# EAGLE library part IC_UC_PIC24F16KA102 (library dp_devices)
16-Bit Flash PIC Microcontroller Mfr no: PIC24F16KA102 PIC24F16KA102 <http://www.microchip.com/wwwproducts/Devices.aspx?dDocName=en539800>
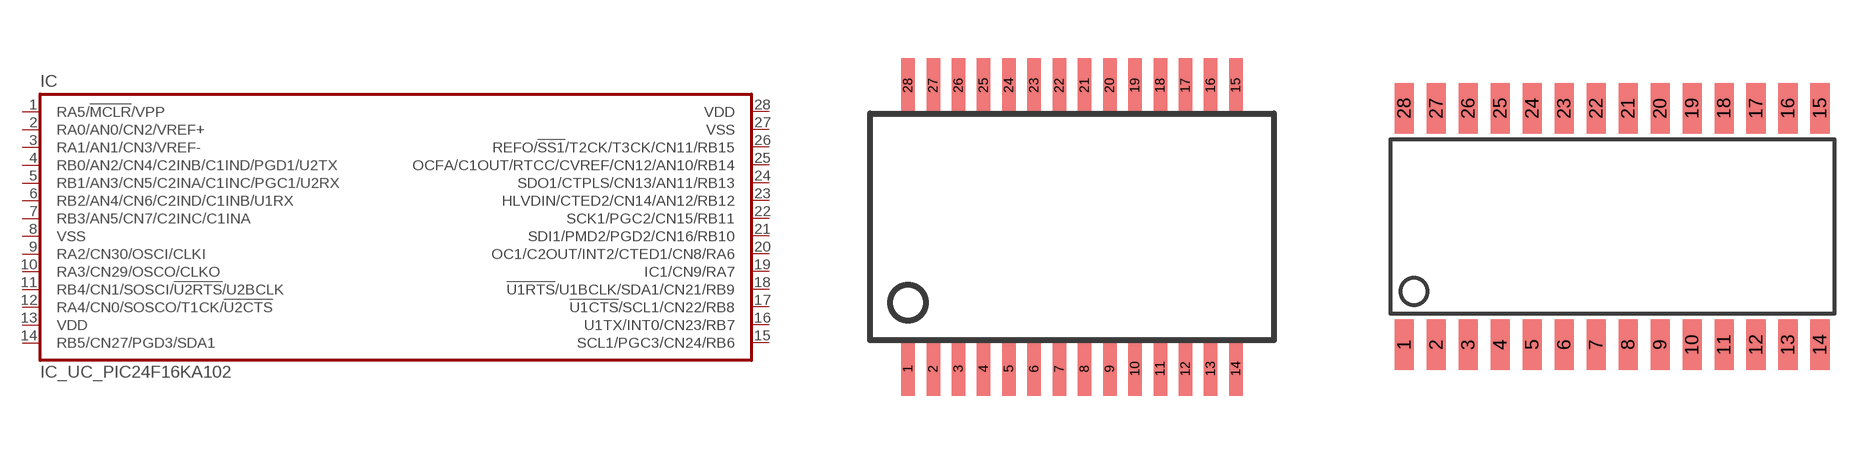
[diagram p118: symbol with the pads of SSOP-28; footprints SSOP-28, SOIC-28W]

Designator prefix IC

## IC_UC_PIC24F16KA102-SSOP  [SSOP-28]
1  RA5/!MCLR!/VPP  in
2  RA0/AN0/CN2/VREF+
3  RA1/AN1/CN3/VREF-
4  RB0/AN2/CN4/C2INB/C1IND/PGD1/U2TX
5  RB1/AN3/CN5/C2INA/C1INC/PGC1/U2RX
6  RB2/AN4/CN6/C2IND/C1INB/U1RX
7  RB3/AN5/CN7/C2INC/C1INA
8  VSS  sup
9  RA2/CN30/OSCI/CLKI
10  RA3/CN29/OSCO/CLKO
11  RB4/CN1/SOSCI/!U2RTS!/U2BCLK
12  RA4/CN0/SOSCO/T1CK/!U2CTS!
13  VDD  sup
14  RB5/CN27/PGD3/SDA1
15  SCL1/PGC3/CN24/RB6
16  U1TX/INT0/CN23/RB7
17  !U1CTS!/SCL1/CN22/RB8
18  !U1RTS!/U1BCLK/SDA1/CN21/RB9
19  IC1/CN9/RA7  pwr
20  OC1/C2OUT/INT2/CTED1/CN8/RA6  pwr
21  SDI1/PMD2/PGD2/CN16/RB10
22  SCK1/PGC2/CN15/RB11
23  HLVDIN/CTED2/CN14/AN12/RB12
24  SDO1/CTPLS/CN13/AN11/RB13
25  OCFA/C1OUT/RTCC/CVREF/CN12/AN10/RB14
26  REFO/!SS1!/T2CK/T3CK/CN11/RB15
27  VSS  sup
28  VDD  sup

## IC_UC_PIC24F16KA102-SOIC  [SOIC-28W]
Pads as for SSOP-28

## Footprint SSOP-28 (pad centres in mm)
SSOP28
smd 0.348 x 1.397: 1 -4.225,-3.656; 2 -3.575,-3.656; 3 -2.925,-3.656; 4 -2.275,-3.656; 5 -1.625,-3.656; 6 -0.975,-3.656; 7 -0.325,-3.656; 8 0.325,-3.656; 9 0.975,-3.656; 10 1.625,-3.656; 11 2.275,-3.656; 12 2.925,-3.656; 13 3.575,-3.656; 14 4.225,-3.656; 15 4.225,3.656; 16 3.575,3.656; 17 2.925,3.656; 18 2.275,3.656; 19 1.625,3.656; 20 0.975,3.656; 21 0.325,3.656; 22 -0.325,3.656; 23 -0.975,3.656; 24 -1.625,3.656; 25 -2.275,3.656; 26 -2.925,3.656; 27 -3.575,3.656; 28 -4.225,3.656

## Footprint SOIC-28W (pad centres in mm)
smd 0.762 x 2: 1 -8.89,-4.7; 2 -7.62,-4.7; 3 -6.35,-4.7; 4 -5.08,-4.7; 5 -3.81,-4.7; 6 -2.54,-4.7; 7 -1.27,-4.7; 8 0,-4.7; 9 1.27,-4.7; 10 2.54,-4.7; 11 3.81,-4.7; 12 5.08,-4.7; 13 6.35,-4.7; 14 7.62,-4.7; 15 7.62,4.7; 16 6.35,4.7; 17 5.08,4.7; 18 3.81,4.7; 19 2.54,4.7; 20 1.27,4.7; 21 0,4.7; 22 -1.27,4.7; 23 -2.54,4.7; 24 -3.81,4.7; 25 -5.08,4.7; 26 -6.35,4.7; 27 -7.62,4.7; 28 -8.89,4.7